# Altium integrated library WE-MCA_rev15b.intlib: 7 symbols
Pins are listed as number, name and electrical type; pins without a type are passive.

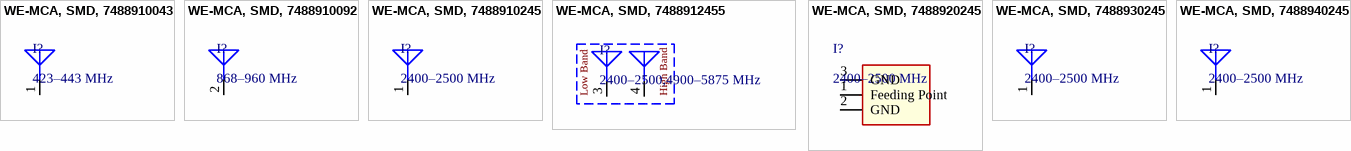
[diagram p0: symbols WE-MCA, SMD, 7488910043 to WE-MCA, SMD, 7488940245]

## WE-MCA, SMD, 7488910043
designator I?, comment 423–443 MHz
Multilayer Chip Antenna WE-MCA, Frequence=423–443 MHz; PartNo: 7488910043; Manufacturer: Wurth Elektronik; ComponentLink1Description: Manufacturer; ComponentLink1URL: http://www.we-online.de; Created by: Baojun Chen; Created Date: Nov.2015; ComponentLink2Description: Datasheet; ComponentLink2URL: http://katalog.we-online.de/pbs/datasheet/7488910043.pdf; Frequency Range: 423–443 MHz
footprint 7488910043 (WE-MCA Multilayer Chip Antenna)
pins: 1

## WE-MCA, SMD, 7488910092
designator I?, comment 868–960 MHz
Multilayer Chip Antenna WE-MCA, Frequence=868–960 MHz; PartNo: 7488910092; Manufacturer: Wurth Elektronik; ComponentLink1Description: Manufacturer; ComponentLink1URL: http://www.we-online.de; Created by: Baojun Chen; Created Date: Nov.2015; ComponentLink2Description: Datasheet; ComponentLink2URL: http://katalog.we-online.de/pbs/datasheet/7488910092.pdf; Frequency Range: 868–960 MHz
footprint 7488910092 (WE-MCA Multilayer Chip Antenna)
pins: 2

## WE-MCA, SMD, 7488910245
designator I?, comment 2400–2500 MHz
Multilayer Chip Antenna WE-MCA, Frequence=2400–2500 MHz; PartNo: 7488910245; Manufacturer: Wurth Elektronik; ComponentLink1Description: Manufacturer; ComponentLink1URL: http://www.we-online.de; Created by: Baojun Chen; Created Date: Nov.2015; ComponentLink2Description: Datasheet; ComponentLink2URL: http://katalog.we-online.de/pbs/datasheet/7488910245.pdf; Frequency Range: 2400–2500 MHz
footprint 7488910245 (WE-MCA Multilayer Chip Antenna)
pins: 1

## WE-MCA, SMD, 7488912455
designator I?, comment 2400–2500,4900–5875 MHz
Multilayer Chip Antenna WE-MCA, Frequence=2400–2500,4900–5875 MHz; PartNo: 7488912455; Manufacturer: Wurth Elektronik; ComponentLink1Description: Manufacturer; ComponentLink1URL: http://www.we-online.de; Created by: Baojun Chen; Created Date: Nov.2015; ComponentLink2Description: Datasheet; ComponentLink2URL: http://katalog.we-online.de/pbs/datasheet/7488912455.pdf; Frequency Range: 2400–2500,4900–5875 MHz
footprint 7488912455 (WE-MCA Multilayer Chip Antenna)
pins: 3, 4
text: Low Band; High Band

## WE-MCA, SMD, 7488920245
designator I?, comment 2400–2500 MHz
Multilayer Chip Antenna WE-MCA, Frequence=2400–2500 MHz; PartNo: 7488920245; Manufacturer: Wurth Elektronik; ComponentLink1Description: Manufacturer; ComponentLink1URL: http://www.we-online.de; Created by: Baojun Chen; Created Date: Nov.2015; ComponentLink2Description: Datasheet; ComponentLink2URL: http://katalog.we-online.de/pbs/datasheet/7488920245.pdf; Frequency Range: 2400–2500 MHz
footprint 7488920245 (WE-MCA Multilayer Chip Antenna)
pins: 1 Feeding Point, 2 GND, 3 GND

## WE-MCA, SMD, 7488930245
designator I?, comment 2400–2500 MHz
Multilayer Chip Antenna WE-MCA, Frequence=2400–2500 MHz; PartNo: 7488930245; Manufacturer: Wurth Elektronik; ComponentLink1Description: Manufacturer; ComponentLink1URL: http://www.we-online.de; Created by: Baojun Chen; Created Date: Nov.2015; ComponentLink2Description: Datasheet; ComponentLink2URL: http://katalog.we-online.de/pbs/datasheet/7488930245.pdf; Frequency Range: 2400–2500 MHz
footprint 7488930245 (WE-MCA Multilayer Chip Antenna)
pins: 1

## WE-MCA, SMD, 7488940245
designator I?, comment 2400–2500 MHz
Multilayer Chip Antenna WE-MCA, Frequence=2400–2500 MHz; PartNo: 7488940245; Manufacturer: Wurth Elektronik; ComponentLink1Description: Manufacturer; ComponentLink1URL: http://www.we-online.de; Created by: Baojun Chen; Created Date: Nov.2015; ComponentLink2Description: Datasheet; ComponentLink2URL: http://katalog.we-online.de/pbs/datasheet/7488940245.pdf; Frequency Range: 2400–2500 MHz
footprint 7488940245 (WE-MCA Multilayer Chip Antenna)
pins: 1